# Altium footprint library Footprint.PcbLib: 97 footprints (part 3 of 7)
Each footprint in its own frame and in the unit in brackets; x right, y up, seen from the top. Pads: shape width x height; smd on the part's side, far side on the other; paste and mask are expansions set on the pad; w line width, h text height; cw(c..) or ccw(c..) is an arc to the next point about the centre after c.
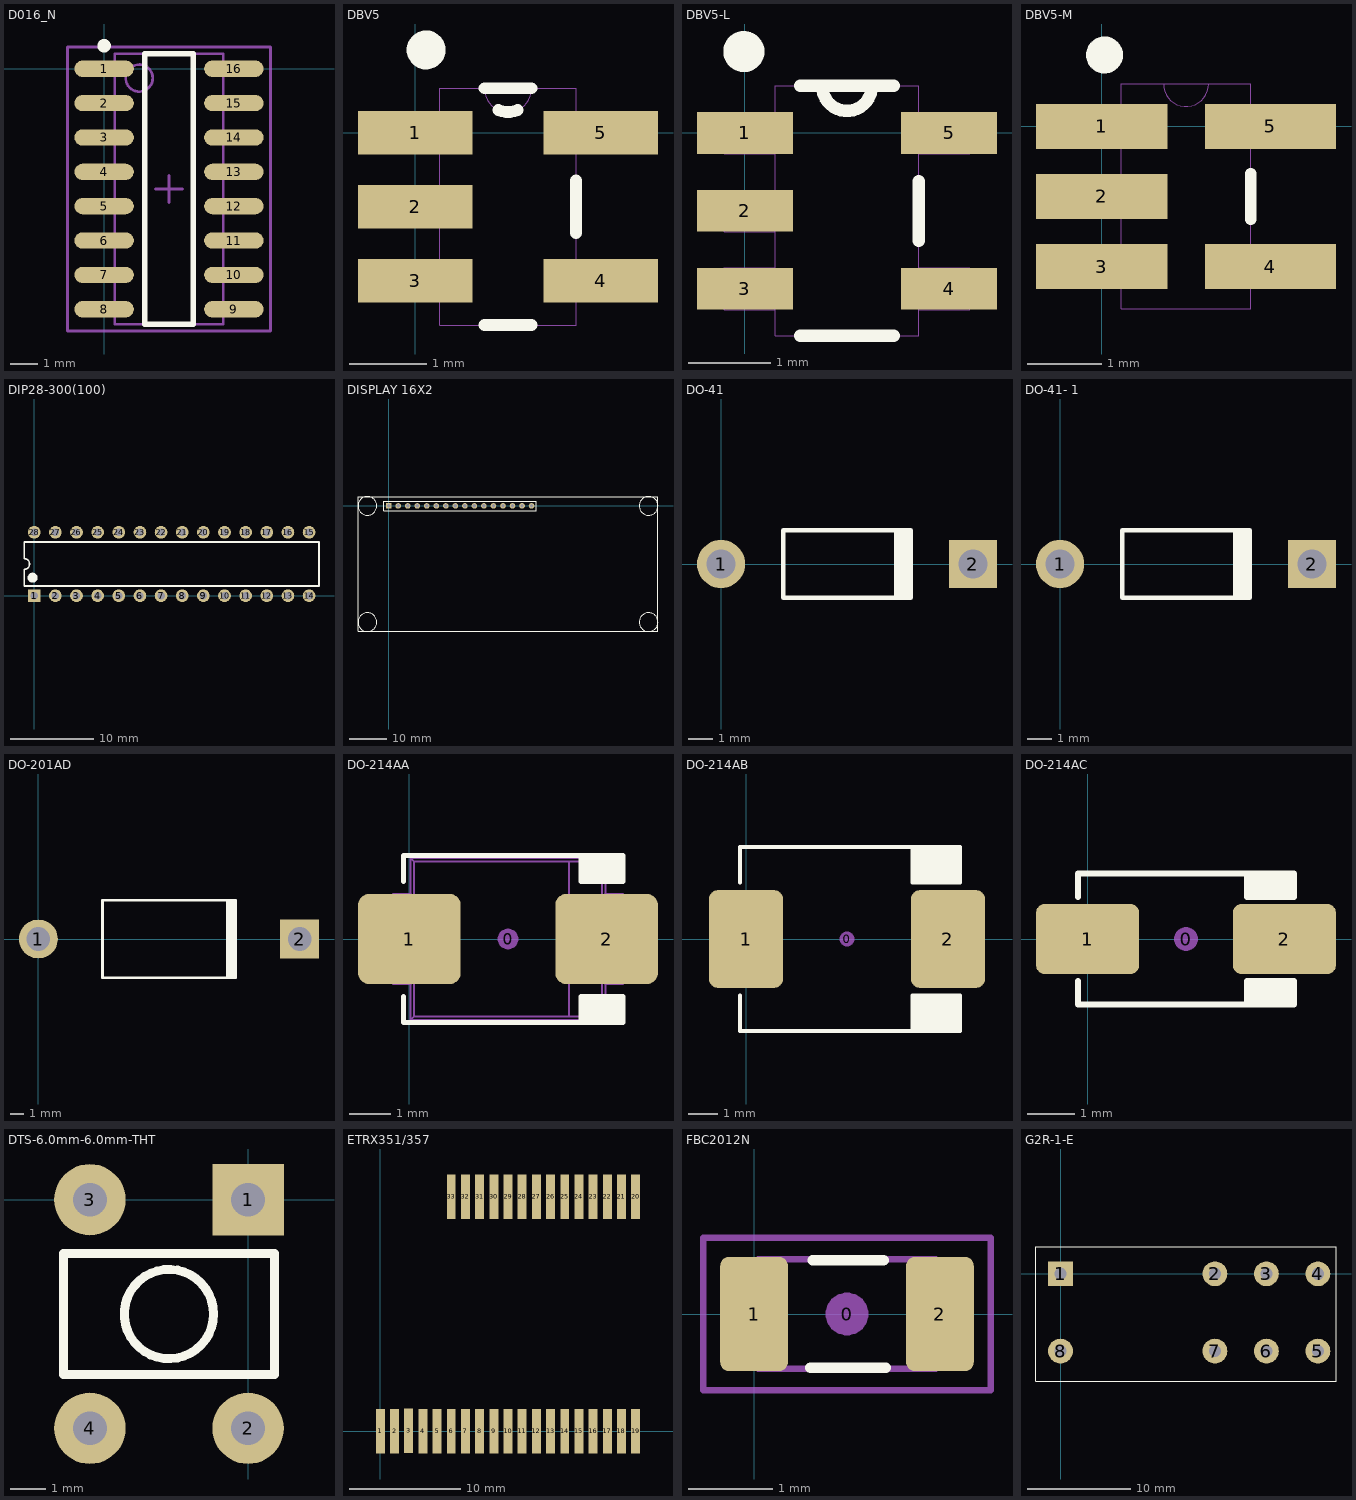
[diagram p2: the footprints below, top view; thin cyan lines are the x and y axes]

## D016_N [mm] "SOIC, 16-Leads, Body 9.9x3.9mm, Pitch 1.27mm, IPC Medium Density"
height 1.75
pads (16):
  oval 2.2x0.6 smd: 1(0,0) 2(0,-1.27) 3(0,-2.54) 4(0,-3.81) 5(0,-5.08) 6(0,-6.35) 7(0,-7.62) 8(0,-8.89) 9(4.8,-8.89) 10(4.8,-7.62) 11(4.8,-6.35) 12(4.8,-5.08) 13(4.8,-3.81) 14(4.8,-2.54) 15(4.8,-1.27) 16(4.8,0)
Top Overlay:
  circle w0.25: c0,0.85 r0.125
  lines w0.2: 1.5,-9.445 1.5,0.555 3.3,0.555 3.3,-9.445 1.5,-9.445
Mechanical 13:
  circle w0.1: c1.3,-0.345 r0.5
  lines w0.1: 0.4,-9.445 0.4,0.555 4.4,0.555 4.4,-9.445 0.4,-9.445
Mechanical 15:
  lines w0.1: 1.9,-4.445 2.9,-4.445 ; 2.4,-4.945 2.4,-3.945 ; -1.35,-9.695 -1.35,0.805 6.15,0.805 6.15,-9.695 -1.35,-9.695
3D body: height 1.75, standoff 0, extent 0.4,-9.445 4.4,0.555

## DBV5 [mil]
pads (5):
  rect 58x22 smd: 1(0,0) 2(0,-37.4) 3(0,-74.8) 4(94,-74.8) 5(94,0)
Top Overlay:
  circle w9.84: c5.51,42.06 r4.92
  lines w6: 35.09,-97.4 58.91,-97.4 ; 35.09,22.6 58.91,22.6 ; 42.08,11.65 ccw(c47,22.6) 51.92,11.65 ; 81.5,-50.7 81.5,-24.1
Mechanical 1:
  lines w0: 35,22.6 ccw(c47,22.6) 59,22.6 ; -12,-84.8 12.5,-84.8 12.5,-64.8 -12,-64.8 -12,-84.8 ; -12,-47.4 12.5,-47.4 12.5,-27.4 -12,-27.4 -12,-47.4 ; -12,-10 12.5,-10 12.5,10 -12,10 -12,-10 ; 12.5,-97.4 12.5,22.6 81.5,22.6 81.5,-97.4 12.5,-97.4 ; 81.5,-84.8 106,-84.8 106,-64.8 81.5,-64.8 81.5,-84.8 ; 81.5,-10 106,-10 106,10 81.5,10 81.5,-10
3D body: height 42, standoff -1, extent 0,-94.4 112,20.6

## DBV5-L [mil]
pads (5):
  rect 46x20 smd: 1(0,0) 2(0,-37.4) 3(0,-74.8) 4(98,-74.8) 5(98,0)
Top Overlay:
  circle w9.84: c-0.49,39.06 r4.92
  lines w6: 26.59,-97.4 71.41,-97.4 ; 26.59,22.6 71.41,22.6 ; 37,22.6 ccw(c49,22.6) 61,22.6 ; 83.5,-51.7 83.5,-23.1
Mechanical 1:
  lines w0: 37,22.6 ccw(c49,22.6) 61,22.6 ; -10,-84.8 -10,-64.8 14.5,-64.8 14.5,-84.8 -10,-84.8 ; -10,-47.4 -10,-27.4 14.5,-27.4 14.5,-47.4 -10,-47.4 ; -10,-10 -10,10 14.5,10 14.5,-10 -10,-10 ; 14.5,-97.4 83.5,-97.4 83.5,22.6 14.5,22.6 14.5,-97.4 ; 83.5,-84.8 83.5,-64.8 108,-64.8 108,-84.8 83.5,-84.8 ; 83.5,-10 83.5,10 108,10 108,-10 83.5,-10
3D body: height 42, standoff -1, extent -4,-95.4 108,19.6

## DBV5-M [mil]
pads (5):
  rect 70x24 smd: 1(0,0) 2(0,-37.4) 3(0,-74.8) 4(90,-74.8) 5(90,0)
Top Overlay:
  circle w9.84: c1.51,38.06 r4.92
  lines w6: 79.5,-49.7 79.5,-25.1
Mechanical 1:
  lines w0: 33,22.6 ccw(c45,22.6) 57,22.6 ; -14,-84.8 -14,-64.8 10.5,-64.8 10.5,-84.8 -14,-84.8 ; -14,-47.4 -14,-27.4 10.5,-27.4 10.5,-47.4 -14,-47.4 ; -14,-10 -14,10 10.5,10 10.5,-10 -14,-10 ; 10.5,-97.4 79.5,-97.4 79.5,22.6 10.5,22.6 10.5,-97.4 ; 79.5,-84.8 79.5,-64.8 104,-64.8 104,-84.8 79.5,-84.8 ; 79.5,-10 79.5,10 104,10 104,-10 79.5,-10
3D body: height 42, standoff -1, extent -9,-94.4 103,20.6

## DIP28-300(100) [mil] "DIP, 28-Leads, Row Spacing 7.62mm, Pitch 2.54mm, Body 34.67x7.3mm"
height 180.31
pads (28):
  rect 60x60 hole 35.43: 1(0,0)
  round 60 hole 35.43: 2(100,0) 3(200,0) 4(300,0) 5(400,0) 6(500,0) 7(600,0) 8(700,0) 9(800,0) 10(900,0) 11(1000,0) 12(1100,0) 13(1200,0) 14(1300,0) 15(1300,300) 16(1200,300) 17(1100,300) 18(1000,300) 19(900,300) 20(800,300) 21(700,300) 22(600,300) 23(500,300) 24(400,300) 25(300,300) 26(200,300) 27(100,300) 28(0,300)
Top Overlay:
  circle w23.62: c-7.48,85.04 r11.81
  lines w7.87: -46.85,45.67 1346.85,45.67 1346.85,254.33 -46.85,254.33 -46.85,175 cw(c-46.85,150) -46.85,125 -46.85,45.67
3D body: height 170.87, standoff -147.44, extent -101.97,-3.7 1401.97,305

## DISPLAY 16X2 [mm]
pads (16):
  rect 1.5x1.5 hole 0.9: 1(0,0)
  round 1.5 hole 0.9: 2(2.54,0) 3(5.08,0) 4(7.62,0) 5(10.16,0) 6(12.7,0) 7(15.24,0) 8(17.78,0) 9(20.32,0) 10(22.86,0) 11(25.4,0) 12(27.94,0) 13(30.48,0) 14(33.02,0) 15(35.56,0) 16(38.1,0)
Top Overlay:
  circle w0.254: c-5.681,0 r2.5
  circle w0.254: c-5.681,-31 r2.5
  circle w0.254: c69.319,-31 r2.5
  circle w0.254: c69.319,0 r2.5
  lines w0.2: -1.27,-1.27 -1.27,1.27 39.37,1.27 39.37,-1.27 0.635,-1.27 -1.27,-1.27
  lines w0.254: -8.181,-33.5 -8.181,2.5 71.819,2.5 71.819,-33.5 -8.181,-33.5
3D body: height 1.5, standoff 0, extent -8.267,-33.54 71.869,2.578
3D body: height 5.1, standoff 1.5, extent -3.152,-27.802 67.867,-2.809
3D body: height 5.1, standoff 0.1, extent -0.231,-23.256 65.276,-7.228

## DO-41 [mm] "Diode, Axial; Body 5.2 x 2.7 mm (LxDia. max), Lead Dia. 0.86 mm (max)"
height 2.8
pads (2):
  round 2 hole 1.2: 1(0,0)
  rect 2x2 hole 1.2: 2(10.46,0)
Top Overlay:
  rectangle: 7.18,-1.4 7.98,1.4
  lines w0.2: 7.88,-1.4 2.58,-1.4 2.58,1.4 7.88,1.4
3D body: height 2.53, standoff -2, extent -0.294,-1.191 10.566,1.211

## DO-41- 1 [mm] "Diode, Axial; Body 5.2 x 2.7 mm (LxDia. max), Lead Dia. 0.86 mm (max)"
height 2.8
pads (2):
  round 2 hole 1.2: 1(0,0)
  rect 2x2 hole 1.2: 2(10.46,0)
Top Overlay:
  rectangle: 7.18,-1.4 7.98,1.4
  lines w0.2: 7.88,-1.4 2.58,-1.4 2.58,1.4 7.88,1.4
3D body: height 2.52, standoff -2, extent -0.24,-1.176 10.7,1.226

## DO-201AD [mm] "Diode, Axial; Body 9.5 x 5.6 mm (LxDia. max), Lead Dia. 1.32 mm (max)"
height 5.6
pads (2):
  round 2.8 hole 1.7: 1(0,0)
  rect 2.8x2.8 hole 1.7: 2(18.84,0)
Top Overlay:
  rectangle: 13.52,-2.8 14.32,2.8
  lines w0.2: 14.22,-2.8 4.62,-2.8 4.62,2.8 14.22,2.8
3D body: height 5.74, standoff -3.88, extent -0.65,-2.82 19.49,2.82

## DO-214AA [mm] "JEDEC DO214 variation AA. SMB"
height 2.65
pads (3):
  round 0.508 on Mech15: 0(2.4,0)
  rrect25% 2.5x2.2 smd: 1(0,0) 2(4.8,0)
Top Overlay:
  region: 4.178,1.397 4.178,2.032 5.194,2.032 5.194,1.397
  region: 4.178,-1.397 4.178,-2.032 5.194,-2.032 5.194,-1.397
  lines w0.127: -0.14,-1.397 -0.14,-2.032 4.178,-2.032 ; -0.14,1.397 -0.14,2.032 4.178,2.032 ; 4.178,-2.032 4.178,-1.397 5.194,-1.397 5.194,-2.032 4.178,-2.032 ; 4.178,2.032 5.194,2.032 5.194,1.397 4.178,1.397 4.178,2.032
Mechanical 13:
  lines w0.05: 0.025,-1.1 0.025,-1.973 ; 0.025,1.1 0.025,1.973 ; 4.775,-1.1 4.775,-1.973 ; 4.775,1.1 4.775,1.973 ; 0.025,-1.973 0.027,-1.975 4.773,-1.975 4.775,-1.973 ; 0.025,-1.973 0.115,-1.883 ; 0.025,1.973 0.027,1.975 4.773,1.975 4.775,1.973 ; 0.025,1.973 0.115,1.883 ; 0.115,-1.883 3.885,-1.884 ; 0.115,-1.883 0.115,1.883 ; 0.115,1.883 3.885,1.884 ; 3.885,-1.884 4.685,-1.884 ; 3.885,-1.884 3.885,1.884 ; 3.885,1.884 4.685,1.884 ; 4.685,-1.884 4.685,1.884 ; 4.685,-1.884 4.775,-1.973 ; 4.685,1.884 4.775,1.973 ; -0.4,-1.1 0.044,-1.1 0.044,1.1 -0.4,1.1 -0.4,-1.1 ; 4.756,-1.1 5.2,-1.1 5.2,1.1 4.756,1.1 4.756,-1.1
3D body: height 2.62, standoff 0, extent -0.4,-1.975 5.2,1.975

## DO-214AB [mm] "JEDEC DO214 variation AB. SMC"
height 2.5
pads (3):
  round 0.508 on Mech15: 0(3.4,0)
  rrect25% 2.5x3.3 smd: 1(0,0) 2(6.8,0)
Top Overlay:
  rectangle: 5.6,1.9 7.2,3.1
  rectangle: 5.6,-3.1 7.2,-1.9
  lines w0.127: -0.2,-1.9 -0.2,-3.1 7.2,-3.1 7.2,-1.9 5.6,-1.9 5.6,-3.1 ; -0.2,1.9 -0.2,3.1 7.2,3.1 7.2,1.9 5.6,1.9 5.6,3.1
3D body: height 2.62, standoff 0.01, extent -0.575,-2.975 7.45,2.975

## DO-214AC [mm] "JEDEC DO214 variation AC. SMA"
height 2.5
pads (3):
  round 0.508 on Mech15: 0(2.1,0)
  rrect25% 2.2x1.5 smd: 1(0,0) 2(4.2,0)
Top Overlay:
  rectangle: 3.4,-1.4 4.4,-0.9
  rectangle: 3.4,0.9 4.4,1.4
  lines w0.127: -0.2,-0.9 -0.2,-1.4 4.4,-1.4 4.4,-0.9 3.4,-0.9 3.4,-1.4 ; -0.2,0.9 -0.2,1.4 4.4,1.4 4.4,0.9 3.4,0.9 ; 3.4,0.911 3.4,1.4
3D body: height 2.42, standoff 0.02, extent -0.5,-1.3 4.7,1.3

## DTS-6.0mm-6.0mm-THT [mil] "Push Button Switch Through Role 6.0mm x 6.0mm"
pads (4):
  rect 80x80 hole 38: 1(0,0)
  round 80 hole 38: 2(0,-255.91) 3(-177.17,0) 4(-177.17,-255.91)
Top Overlay:
  circle w10: c-88.67,-128 r50
  lines w10: -206.69,-195.91 -206.69,-60 29.53,-60 29.53,-195.91 -206.69,-195.91
3D body: height 196.85, standoff -138.19, extent -207.17,-275 28.66,32.03

## ETRX351/357 [mm]
pads (33):
  rect 0.8x4 smd: 1(0,0) 2(1.27,0) 3(2.54,0.051) 4(3.81,0) 5(5.08,0) 6(6.35,0) 7(7.62,0) 8(8.89,0) 9(10.16,0) 10(11.43,0) 11(12.7,0) 12(13.97,0) 13(15.24,0) 14(16.51,0) 15(17.78,0) 16(19.05,0) 17(20.32,0) 18(21.59,0) 19(22.86,0) 20(22.86,21) 21(21.59,21) 22(20.32,21) 23(19.05,21) 24(17.78,21) 25(16.51,21) 26(15.24,21) 27(13.97,21) 28(12.7,21) 29(11.43,21) 30(10.16,21) 31(8.89,21) 32(7.62,21) 33(6.35,21)
3D body: height 2, standoff 1, extent 6.96,2.108 23.19,18.974
3D body: height 1, standoff 0, extent -1.143,0.914 23.749,19.914
3D body: height 2, standoff 1, extent -0.254,2.692 1.88,18.847

## FBC2012N [mm] "Ferrite Bead Chip, Body 2.0x1.2mm, 0805, IPC Medium Density"
height 0.9
pads (3):
  round 0.508 on Mech15: 0(1.1,0)
  rrect25% 0.8x1.35 smd: 1(0,0) 2(2.2,0)
Top Overlay:
  lines w0.127: 0.668,-0.635 1.557,-0.635 ; 0.694,0.635 1.532,0.635
Mechanical 13:
  lines w0.076: 0.05,-0.65 0.05,0.65 2.15,0.65 2.15,-0.65 0.05,-0.65
Mechanical 15:
  lines w0.076: -0.6,-0.9 -0.6,0.9 2.8,0.9 2.8,-0.9 -0.6,-0.9
3D body: height 0.9, standoff 0, extent 0.1,-0.625 2.1,0.625

## G2R-1-E [mm]
pads (8):
  rect 2.4x2.4 hole 1.2: 1(0,0)
  round 2.4 hole 1.2: 2(15,0) 3(20,0) 4(25,0) 5(25,-7.5) 6(20,-7.5) 7(15,-7.5) 8(0,-7.5)
Top Overlay:
  lines w0.102: -2.38,-10.456 -2.38,2.651 26.754,2.651 26.754,-10.456 -2.38,-10.456
3D body: height 25.5, standoff -4, extent -2.3,-10.4 26.7,2.6